# EAGLE library part EFM32GG11B8*Q100 (library EFM32)
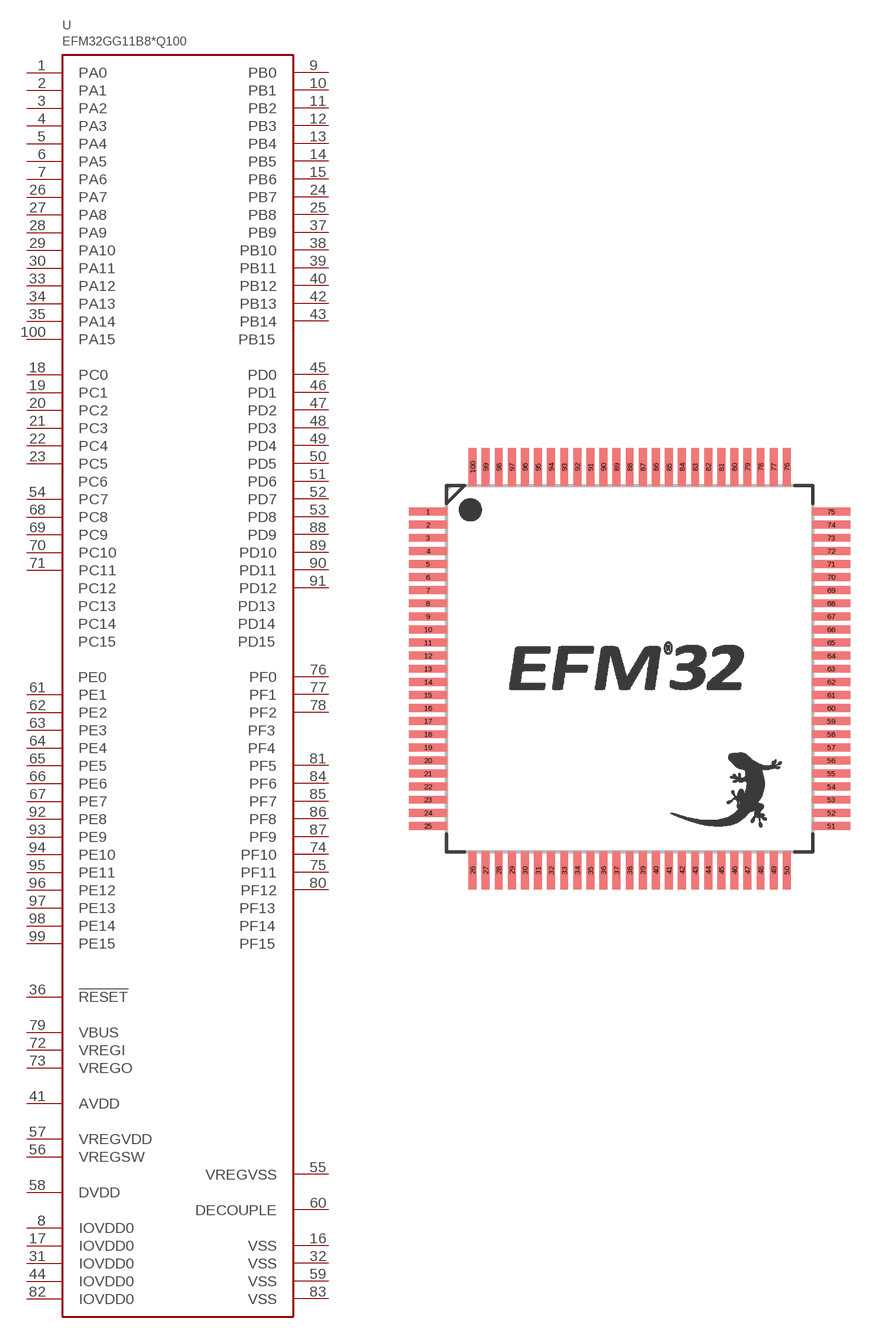
[diagram p0: symbol with the pads of QFP100; footprint QFP100]

Designator prefix U

## EFM32GG11B820F2048GQ100, EFM32GG11B820F2048IQ100, EFM32GG11B840F1024GQ100, EFM32GG11B840F1024IQ100  [QFP100]
1  PA0
2  PA1
3  PA2
4  PA3
5  PA4
6  PA5
7  PA6
8  IOVDD0
9  PB0
10  PB1
11  PB2
12  PB3
13  PB4
14  PB5
15  PB6
16  VSS
17  IOVDD0
18  PC0
19  PC1
20  PC2
21  PC3
22  PC4
23  PC5
24  PB7
25  PB8
26  PA7
27  PA8
28  PA9
29  PA10
30  PA11
31  IOVDD0
32  VSS
33  PA12
34  PA13
35  PA14
36  !RESET
37  PB9
38  PB10
39  PB11
40  PB12
41  AVDD
42  PB13
43  PB14
44  IOVDD0
45  PD0
46  PD1
47  PD2
48  PD3
49  PD4
50  PD5
51  PD6
52  PD7
53  PD8
54  PC7
55  VREGVSS
56  VREGSW
57  VREGVDD
58  DVDD
59  VSS
60  DECOUPLE
61  PE1
62  PE2
63  PE3
64  PE4
65  PE5
66  PE6
67  PE7
68  PC8
69  PC9
70  PC10
71  PC11
72  VREGI
73  VREGO
74  PF10
75  PF11
76  PF0
77  PF1
78  PF2
79  VBUS
80  PF12
81  PF5
82  IOVDD0
83  VSS
84  PF6
85  PF7
86  PF8
87  PF9
88  PD9
89  PD10
90  PD11
91  PD12
92  PE8
93  PE9
94  PE10
95  PE11
96  PE12
97  PE13
98  PE14
99  PE15
100  PA15

## Footprint QFP100 (pad centres in mm)
smd 1.45 x 0.3: 1 -7.7,6; 2 -7.7,5.5; 3 -7.7,5; 4 -7.7,4.5; 5 -7.7,4; 6 -7.7,3.5; 7 -7.7,3; 8 -7.7,2.5; 9 -7.7,2; 10 -7.7,1.5; 11 -7.7,1; 12 -7.7,0.5; 13 -7.7,0; 14 -7.7,-0.5; 15 -7.7,-1; 16 -7.7,-1.5; 17 -7.7,-2; 18 -7.7,-2.5; 19 -7.7,-3; 20 -7.7,-3.5; 21 -7.7,-4; 22 -7.7,-4.5; 23 -7.7,-5; 24 -7.7,-5.5; 25 -7.7,-6; 51 7.7,-6; 52 7.7,-5.5; 53 7.7,-5; 54 7.7,-4.5; 55 7.7,-4; 56 7.7,-3.5; 57 7.7,-3; 58 7.7,-2.5; 59 7.7,-2; 60 7.7,-1.5; 61 7.7,-1; 62 7.7,-0.5; 63 7.7,0; 64 7.7,0.5; 65 7.7,1; 66 7.7,1.5; 67 7.7,2; 68 7.7,2.5; 69 7.7,3; 70 7.7,3.5; 71 7.7,4; 72 7.7,4.5; 73 7.7,5; 74 7.7,5.5; 75 7.7,6
smd 0.3 x 1.45: 26 -6,-7.7; 27 -5.5,-7.7; 28 -5,-7.7; 29 -4.5,-7.7; 30 -4,-7.7; 31 -3.5,-7.7; 32 -3,-7.7; 33 -2.5,-7.7; 34 -2,-7.7; 35 -1.5,-7.7; 36 -1,-7.7; 37 -0.5,-7.7; 38 0,-7.7; 39 0.5,-7.7; 40 1,-7.7; 41 1.5,-7.7; 42 2,-7.7; 43 2.5,-7.7; 44 3,-7.7; 45 3.5,-7.7; 46 4,-7.7; 47 4.5,-7.7; 48 5,-7.7; 49 5.5,-7.7; 50 6,-7.7; 76 6,7.7; 77 5.5,7.7; 78 5,7.7; 79 4.5,7.7; 80 4,7.7; 81 3.5,7.7; 82 3,7.7; 83 2.5,7.7; 84 2,7.7; 85 1.5,7.7; 86 1,7.7; 87 0.5,7.7; 88 0,7.7; 89 -0.5,7.7; 90 -1,7.7; 91 -1.5,7.7; 92 -2,7.7; 93 -2.5,7.7; 94 -3,7.7; 95 -3.5,7.7; 96 -4,7.7; 97 -4.5,7.7; 98 -5,7.7; 99 -5.5,7.7; 100 -6,7.7